# Altium footprint library ControlCircuit_PCB_Library_V1_0.PcbLib: 207 footprints (part 8 of 13)
Each footprint in its own frame and in the unit in brackets; x right, y up, seen from the top. Pads: shape width x height; smd on the part's side, far side on the other; paste and mask are expansions set on the pad; w line width, h text height; cw(c..) or ccw(c..) is an arc to the next point about the centre after c.
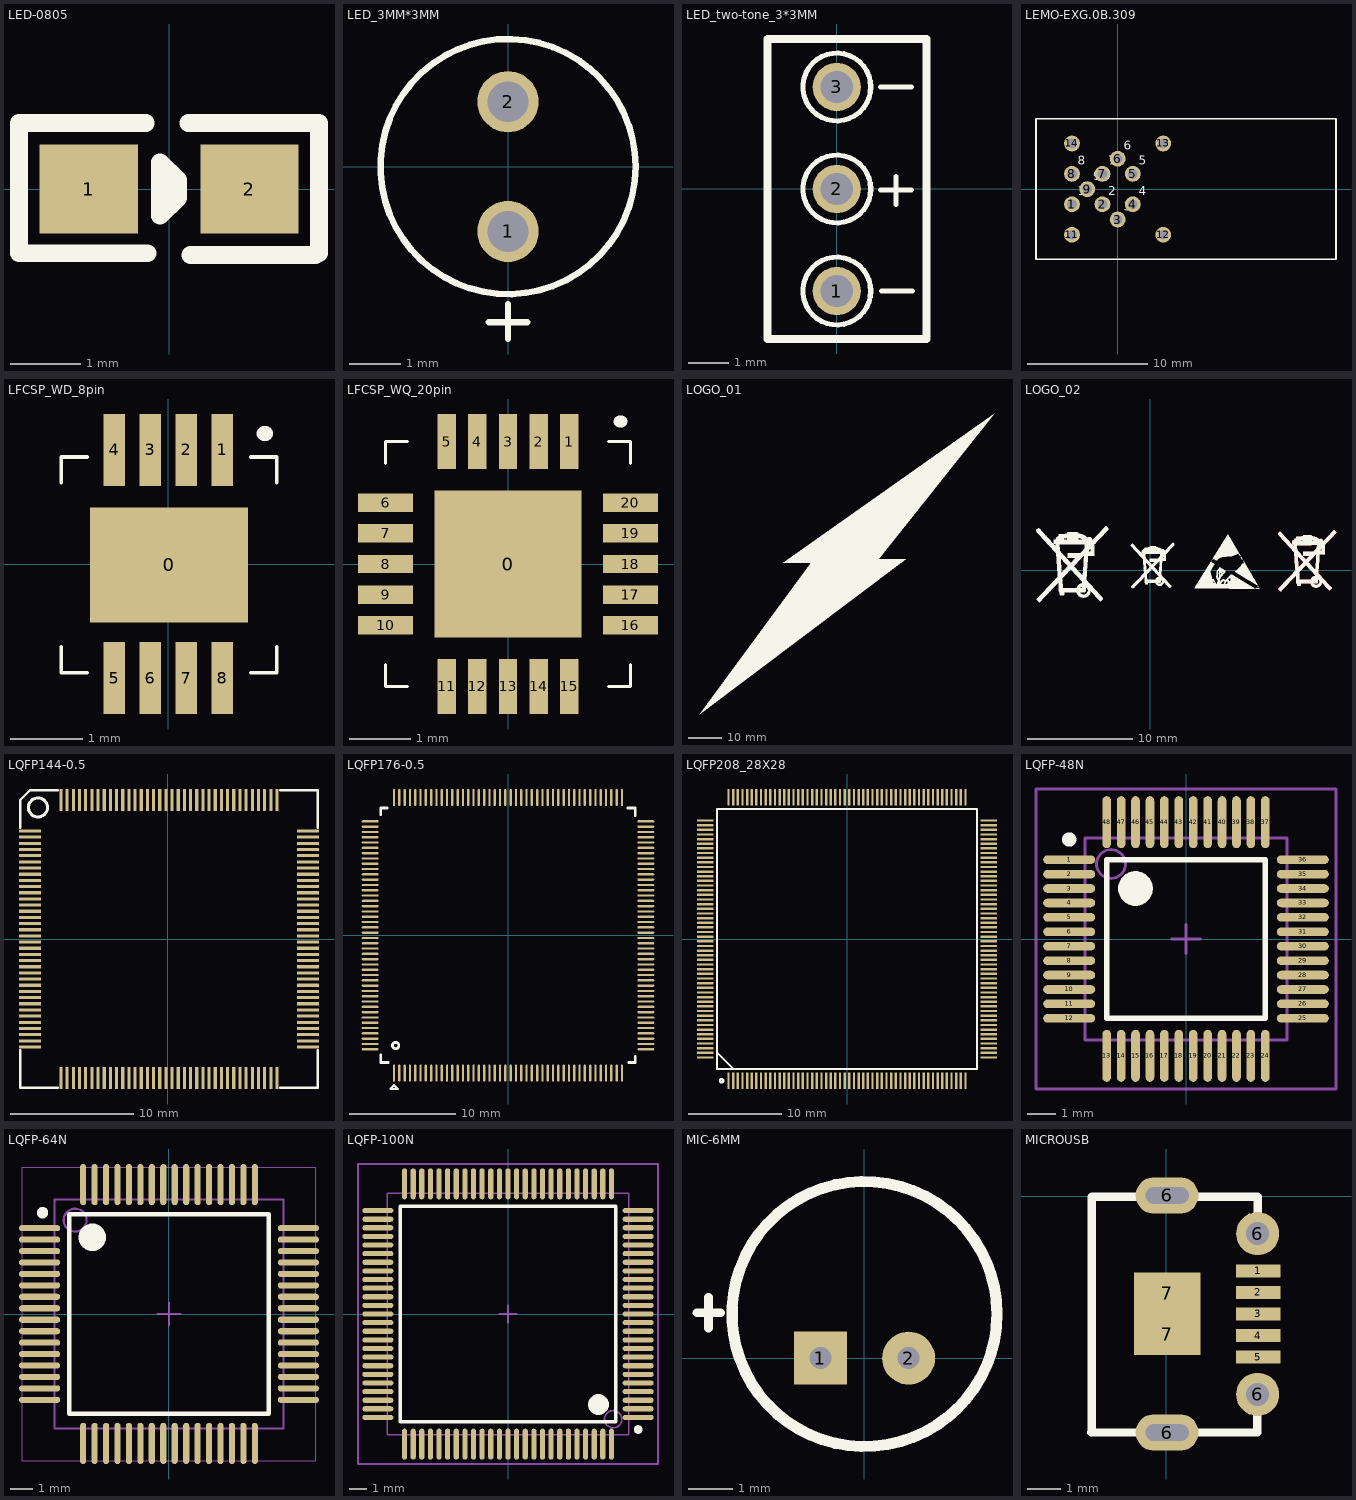
[diagram p7: the footprints below, top view; thin cyan lines are the x and y axes]

## LED-0805 [mil]
pads (2):
  rect 55x50 smd: 1(-45,0) 2(45,0)
Top Overlay:
  lines w10: -84,-36 -84,37 -13,37 ; -82,-36 -12,-36 ; -0.13,-10.13 -0.13,9.87 ; 11,37 84,37 84,-36 ; 12,-37 82,-37 ; -5,-15 5,-5 5,5 -5,15 -5,-15

## LED_3MM*3MM [mm]
pads (2):
  round 1.2 hole 0.8: 1(0,-1.27) 2(0,1.27)
Top Overlay:
  circle w0.127: c0,0 r2.5
  lines w0.127: -0.381,-3.048 0.381,-3.048 ; 0,-3.378 0,-2.692

## LED_two-tone_3*3MM [mm]
pads (3):
  round 1.2 hole 0.8: 1(0,-2.54) 2(0,0) 3(0,2.54)
Top Overlay:
  circle w0.127: c0,-2.54 r0.844
  circle w0.127: c0,0 r0.844
  circle w0.127: c0,2.54 r0.844
  lines w0.127: 1.092,-0.025 1.854,-0.025 ; 1.092,2.54 1.854,2.54 ; 1.118,-2.54 1.88,-2.54 ; 1.473,-0.381 1.473,0.305
  lines w0.203: -1.727,-3.734 2.235,-3.734 2.235,3.734 -1.727,3.734 -1.727,1.867 -1.727,-1.867 -1.727,-3.734

## LEMO-EXG.0B.309 [mil]
pads (13):
  round 52 hole 32: 1(-150,-50) 2(-50,-50) 3(0,-100) 4(50,-50) 5(50,50) 6(0,100) 7(-50,50) 8(-150,50) 9(-100,0) 11(-150,-150) 12(150,-150) 13(150,150) 14(-150,150)
Top Overlay:
  lines w5: -268.11,-230.31 717,-230.31 717,231 -268.11,231 -268.11,-230.31
  text "1" at -130.31,-30.32 h49.6
  text "2" at -30.32,-30.32 h49.6
  text "3" at 20,-80.31 h49.6
  text "4" at 70,-30.32 h49.6
  text "5" at 70,70 h49.6
  text "6" at 20,120 h49.6
  text "7" at -30.32,70 h49.6
  text "8" at -130.31,70 h49.6
  text "9" at -80.31,20 h49.6

## LFCSP_WD_8pin [mm]
pads (9):
  rect 2.2x1.6 smd: 0(0.012,-0.011)
  rect 0.3x1 smd: 1(0.75,1.587) 2(0.25,1.587) 3(-0.25,1.587) 4(-0.75,1.587) 5(-0.75,-1.587) 6(-0.25,-1.587) 7(0.25,-1.587) 8(0.75,-1.587)
Top Overlay:
  lines w0.051: -1.488,-1.153 -1.488,-1.511 -1.13,-1.511 ; -1.488,1.13 -1.488,1.489 -1.13,1.489 ; 1.154,-1.511 1.512,-1.511 1.512,-1.153 ; 1.154,1.489 1.512,1.489 1.512,1.13
  lines w0.203: 1.334,1.816 1.36,1.816

## LFCSP_WQ_20pin [mm]
pads (21):
  rect 2.4x2.4 smd: 0(0,0)
  rect 0.3x0.9 smd: 1(1,2) 2(0.5,2) 3(0,2) 4(-0.5,2) 5(-1,2) 11(-1,-2) 12(-0.5,-2) 13(0,-2) 14(0.5,-2) 15(1,-2)
  rect 0.9x0.3 smd: 6(-2,1) 7(-2,0.5) 8(-2,0) 9(-2,-0.5) 10(-2,-1) 16(2,-1) 17(2,-0.5) 18(2,0) 19(2,0.5) 20(2,1)
Top Overlay:
  lines w0.051: -2,-1.642 -2,-2 -1.642,-2 ; -2,1.642 -2,2 -1.642,2 ; 1.642,-2 2,-2 2,-1.642 ; 1.642,2 2,2 2,1.642
  lines w0.203: 1.822,2.327 1.848,2.327

## LOGO_01 [mm]
Top Overlay:
  region: -270.688,25.679 -236.906,71.653 -209.474,71.653
  region: -183.312,114.808 -218.465,70.688 -245.897,70.688

## LOGO_02 [mm]
Top Layer:
  drawing of 1717 lines, arcs and shapes, not listed
Top Overlay:
  drawing of 8116 lines, arcs and shapes, not listed

## LQFP144-0.5 [mm]
pads (144):
  rect 1.8x0.254 smd: 1(-11.134,8.764) 2(-11.134,8.264) 3(-11.134,7.764) 4(-11.134,7.264) 5(-11.134,6.764) 6(-11.134,6.264) 7(-11.134,5.764) 8(-11.134,5.264) 9(-11.134,4.764) 10(-11.134,4.264) 11(-11.134,3.764) 12(-11.134,3.264) 13(-11.134,2.764) 14(-11.134,2.264) 15(-11.134,1.764) 16(-11.134,1.264) 17(-11.134,0.764) 18(-11.134,0.264) 19(-11.134,-0.236) 20(-11.134,-0.736) 21(-11.134,-1.236) 22(-11.134,-1.736) 23(-11.134,-2.236) 24(-11.134,-2.736) 25(-11.134,-3.236) 26(-11.134,-3.736) 27(-11.134,-4.236) 28(-11.134,-4.736) 29(-11.134,-5.236) 30(-11.134,-5.736) 31(-11.134,-6.236) 32(-11.134,-6.736) 33(-11.134,-7.236) 34(-11.134,-7.736) 35(-11.134,-8.236) 36(-11.134,-8.736) 73(11.366,-8.736) 74(11.366,-8.236) 75(11.366,-7.736) 76(11.366,-7.236) 77(11.366,-6.736) 78(11.366,-6.236) 79(11.366,-5.736) 80(11.366,-5.236) 81(11.366,-4.736) 82(11.366,-4.236) 83(11.366,-3.736) 84(11.366,-3.236) 85(11.366,-2.736) 86(11.366,-2.236) 87(11.366,-1.736) 88(11.366,-1.236) 89(11.366,-0.736) 90(11.366,-0.236) 91(11.366,0.264) 92(11.366,0.764) 93(11.366,1.264) 94(11.366,1.764) 95(11.366,2.264) 96(11.366,2.764) 97(11.366,3.264) 98(11.366,3.764) 99(11.366,4.264) 100(11.366,4.764) 101(11.366,5.264) 102(11.366,5.764) 103(11.366,6.264) 104(11.366,6.764) 105(11.366,7.264) 106(11.366,7.764) 107(11.366,8.264) 108(11.366,8.764)
  rect 0.254x1.8 smd: 37(-8.634,-11.236) 38(-8.134,-11.236) 39(-7.634,-11.236) 40(-7.134,-11.236) 41(-6.634,-11.236) 42(-6.134,-11.236) 43(-5.634,-11.236) 44(-5.134,-11.236) 45(-4.634,-11.236) 46(-4.134,-11.236) 47(-3.634,-11.236) 48(-3.134,-11.236) 49(-2.634,-11.236) 50(-2.134,-11.236) 51(-1.634,-11.236) 52(-1.134,-11.236) 53(-0.634,-11.236) 54(-0.134,-11.236) 55(0.366,-11.236) 56(0.866,-11.236) 57(1.366,-11.236) 58(1.866,-11.236) 59(2.366,-11.236) 60(2.866,-11.236) 61(3.366,-11.236) 62(3.866,-11.236) 63(4.366,-11.236) 64(4.866,-11.236) 65(5.366,-11.236) 66(5.866,-11.236) 67(6.366,-11.236) 68(6.866,-11.236) 69(7.366,-11.236) 70(7.866,-11.236) 71(8.366,-11.236) 72(8.866,-11.236) 109(8.866,11.264) 110(8.366,11.264) 111(7.866,11.264) 112(7.366,11.264) 113(6.866,11.264) 114(6.366,11.264) 115(5.866,11.264) 116(5.366,11.264) 117(4.866,11.264) 118(4.366,11.264) 119(3.866,11.264) 120(3.366,11.264) 121(2.866,11.264) 122(2.366,11.264) 123(1.866,11.264) 124(1.366,11.264) 125(0.866,11.264) 126(0.366,11.264) 127(-0.134,11.264) 128(-0.634,11.264) 129(-1.134,11.264) 130(-1.634,11.264) 131(-2.134,11.264) 132(-2.634,11.264) 133(-3.134,11.264) 134(-3.634,11.264) 135(-4.134,11.264) 136(-4.634,11.264) 137(-5.134,11.264) 138(-5.634,11.264) 139(-6.134,11.264) 140(-6.634,11.264) 141(-7.134,11.264) 142(-7.634,11.264) 143(-8.134,11.264) 144(-8.634,11.264)
Top Overlay:
  circle w0.254: c-10.501,10.668 r0.773
  lines w0.2: -11.934,-8.986 -11.934,-12.036 -8.884,-12.036 ; -11.934,9.014 -11.934,11.264 -11.134,12.064 -8.884,12.064 ; 9.116,-12.036 12.166,-12.036 12.166,-8.986 ; 9.116,12.064 12.166,12.064 12.166,9.014

## LQFP176-0.5 [mm]
pads (176):
  oval 0.22x1.6 smd: 1(-10.75,-13) 2(-10.25,-13) 3(-9.75,-13) 4(-9.25,-13) 5(-8.75,-13) 6(-8.25,-13) 7(-7.75,-13) 8(-7.25,-13) 9(-6.75,-13) 10(-6.25,-13) 11(-5.75,-13) 12(-5.25,-13) 13(-4.75,-13) 14(-4.25,-13) 15(-3.75,-13) 16(-3.25,-13) 17(-2.75,-13) 18(-2.25,-13) 19(-1.75,-13) 20(-1.25,-13) 21(-0.75,-13) 22(-0.25,-13) 23(0.25,-13) 24(0.75,-13) 25(1.25,-13) 26(1.75,-13) 27(2.25,-13) 28(2.75,-13) 29(3.25,-13) 30(3.75,-13) 31(4.25,-13) 32(4.75,-13) 33(5.25,-13) 34(5.75,-13) 35(6.25,-13) 36(6.75,-13) 37(7.25,-13) 38(7.75,-13) 39(8.25,-13) 40(8.75,-13) 41(9.25,-13) 42(9.75,-13) 43(10.25,-13) 44(10.75,-13) 89(10.75,13) 90(10.25,13) 91(9.75,13) 92(9.25,13) 93(8.75,13) 94(8.25,13) 95(7.75,13) 96(7.25,13) 97(6.75,13) 98(6.25,13) 99(5.75,13) 100(5.25,13) 101(4.75,13) 102(4.25,13) 103(3.75,13) 104(3.25,13) 105(2.75,13) 106(2.25,13) 107(1.75,13) 108(1.25,13) 109(0.75,13) 110(0.25,13) 111(-0.25,13) 112(-0.75,13) 113(-1.25,13) 114(-1.75,13) 115(-2.25,13) 116(-2.75,13) 117(-3.25,13) 118(-3.75,13) 119(-4.25,13) 120(-4.75,13) 121(-5.25,13) 122(-5.75,13) 123(-6.25,13) 124(-6.75,13) 125(-7.25,13) 126(-7.75,13) 127(-8.25,13) 128(-8.75,13) 129(-9.25,13) 130(-9.75,13) 131(-10.25,13) 132(-10.75,13)
  oval 1.6x0.22 smd: 45(13,-10.75) 46(13,-10.25) 47(13,-9.75) 48(13,-9.25) 49(13,-8.75) 50(13,-8.25) 51(13,-7.75) 52(13,-7.25) 53(13,-6.75) 54(13,-6.25) 55(13,-5.75) 56(13,-5.25) 57(13,-4.75) 58(13,-4.25) 59(13,-3.75) 60(13,-3.25) 61(13,-2.75) 62(13,-2.25) 63(13,-1.75) 64(13,-1.25) 65(13,-0.75) 66(13,-0.25) 67(13,0.25) 68(13,0.75) 69(13,1.25) 70(13,1.75) 71(13,2.25) 72(13,2.75) 73(13,3.25) 74(13,3.75) 75(13,4.25) 76(13,4.75) 77(13,5.25) 78(13,5.75) 79(13,6.25) 80(13,6.75) 81(13,7.25) 82(13,7.75) 83(13,8.25) 84(13,8.75) 85(13,9.25) 86(13,9.75) 87(13,10.25) 88(13,10.75) 133(-13,10.75) 134(-13,10.25) 135(-13,9.75) 136(-13,9.25) 137(-13,8.75) 138(-13,8.25) 139(-13,7.75) 140(-13,7.25) 141(-13,6.75) 142(-13,6.25) 143(-13,5.75) 144(-13,5.25) 145(-13,4.75) 146(-13,4.25) 147(-13,3.75) 148(-13,3.25) 149(-13,2.75) 150(-13,2.25) 151(-13,1.75) 152(-13,1.25) 153(-13,0.75) 154(-13,0.25) 155(-13,-0.25) 156(-13,-0.75) 157(-13,-1.25) 158(-13,-1.75) 159(-13,-2.25) 160(-13,-2.75) 161(-13,-3.25) 162(-13,-3.75) 163(-13,-4.25) 164(-13,-4.75) 165(-13,-5.25) 166(-13,-5.75) 167(-13,-6.25) 168(-13,-6.75) 169(-13,-7.25) 170(-13,-7.75) 171(-13,-8.25) 172(-13,-8.75) 173(-13,-9.25) 174(-13,-9.75) 175(-13,-10.25) 176(-13,-10.75)
Top Overlay:
  circle w0.254: c-10.6,-10.4 r0.3
  lines w0.2: -11.1,-14.5 -10.75,-14.15 -10.4,-14.5 -11.1,-14.5
  lines w0.254: -12,-11.3 -12,-12 -11.3,-12 ; -12,11.4 -12,12 -11.4,12 ; 11.3,12 12,12 12,11.3 ; 11.4,-12 12,-12 12,-11.4

## LQFP208_28X28 [mil]
height 62.99
pads (208):
  rect 10x70 smd: 1(-501.97,-600.39) 2(-482.28,-600.39) 3(-462.6,-600.39) 4(-442.91,-600.39) 5(-423.23,-600.39) 6(-403.54,-600.39) 7(-383.86,-600.39) 8(-364.17,-600.39) 9(-344.49,-600.39) 10(-324.8,-600.39) 11(-305.12,-600.39) 12(-285.43,-600.39) 13(-265.75,-600.39) 14(-246.06,-600.39) 15(-226.38,-600.39) 16(-206.69,-600.39) 17(-187.01,-600.39) 18(-167.32,-600.39) 19(-147.64,-600.39) 20(-127.95,-600.39) 21(-108.27,-600.39) 22(-88.58,-600.39) 23(-68.9,-600.39) 24(-49.21,-600.39) 25(-29.53,-600.39) 26(-9.84,-600.39) 27(9.84,-600.39) 28(29.53,-600.39) 29(49.21,-600.39) 30(68.9,-600.39) 31(88.58,-600.39) 32(108.27,-600.39) 33(127.95,-600.39) 34(147.64,-600.39) 35(167.32,-600.39) 36(187.01,-600.39) 37(206.69,-600.39) 38(226.38,-600.39) 39(246.06,-600.39) 40(265.75,-600.39) 41(285.43,-600.39) 42(305.12,-600.39) 43(324.8,-600.39) 44(344.49,-600.39) 45(364.17,-600.39) 46(383.86,-600.39) 47(403.54,-600.39) 48(423.23,-600.39) 49(442.91,-600.39) 50(462.6,-600.39) 51(482.28,-600.39) 52(501.97,-600.39) 105(501.97,600.39) 106(482.28,600.39) 107(462.6,600.39) 108(442.91,600.39) 109(423.23,600.39) 110(403.54,600.39) 111(383.86,600.39) 112(364.17,600.39) 113(344.49,600.39) 114(324.8,600.39) 115(305.12,600.39) 116(285.43,600.39) 117(265.75,600.39) 118(246.06,600.39) 119(226.38,600.39) 120(206.69,600.39) 121(187.01,600.39) 122(167.32,600.39) 123(147.64,600.39) 124(127.95,600.39) 125(108.27,600.39) 126(88.58,600.39) 127(68.9,600.39) 128(49.21,600.39) 129(29.53,600.39) 130(9.84,600.39) 131(-9.84,600.39) 132(-29.53,600.39) 133(-49.21,600.39) 134(-68.9,600.39) 135(-88.58,600.39) 136(-108.27,600.39) 137(-127.95,600.39) 138(-147.64,600.39) 139(-167.32,600.39) 140(-187.01,600.39) 141(-206.69,600.39) 142(-226.38,600.39) 143(-246.06,600.39) 144(-265.75,600.39) 145(-285.43,600.39) 146(-305.12,600.39) 147(-324.8,600.39) 148(-344.49,600.39) 149(-364.17,600.39) 150(-383.86,600.39) 151(-403.54,600.39) 152(-423.23,600.39) 153(-442.91,600.39) 154(-462.6,600.39) 155(-482.28,600.39) 156(-501.97,600.39)
  rect 70x10 smd: 53(600.39,-501.97) 54(600.39,-482.28) 55(600.39,-462.6) 56(600.39,-442.91) 57(600.39,-423.23) 58(600.39,-403.54) 59(600.39,-383.86) 60(600.39,-364.17) 61(600.39,-344.49) 62(600.39,-324.8) 63(600.39,-305.12) 64(600.39,-285.43) 65(600.39,-265.75) 66(600.39,-246.06) 67(600.39,-226.38) 68(600.39,-206.69) 69(600.39,-187.01) 70(600.39,-167.32) 71(600.39,-147.64) 72(600.39,-127.95) 73(600.39,-108.27) 74(600.39,-88.58) 75(600.39,-68.9) 76(600.39,-49.21) 77(600.39,-29.53) 78(600.39,-9.84) 79(600.39,9.84) 80(600.39,29.53) 81(600.39,49.21) 82(600.39,68.9) 83(600.39,88.58) 84(600.39,108.27) 85(600.39,127.95) 86(600.39,147.64) 87(600.39,167.32) 88(600.39,187.01) 89(600.39,206.69) 90(600.39,226.38) 91(600.39,246.06) 92(600.39,265.75) 93(600.39,285.43) 94(600.39,305.12) 95(600.39,324.8) 96(600.39,344.49) 97(600.39,364.17) 98(600.39,383.86) 99(600.39,403.54) 100(600.39,423.23) 101(600.39,442.91) 102(600.39,462.6) 103(600.39,482.28) 104(600.39,501.97) 157(-600.39,501.97) 158(-600.39,482.28) 159(-600.39,462.6) 160(-600.39,442.91) 161(-600.39,423.23) 162(-600.39,403.54) 163(-600.39,383.86) 164(-600.39,364.17) 165(-600.39,344.49) 166(-600.39,324.8) 167(-600.39,305.12) 168(-600.39,285.43) 169(-600.39,265.75) 170(-600.39,246.06) 171(-600.39,226.38) 172(-600.39,206.69) 173(-600.39,187.01) 174(-600.39,167.32) 175(-600.39,147.64) 176(-600.39,127.95) 177(-600.39,108.27) 178(-600.39,88.58) 179(-600.39,68.9) 180(-600.39,49.21) 181(-600.39,29.53) 182(-600.39,9.84) 183(-600.39,-9.84) 184(-600.39,-29.53) 185(-600.39,-49.21) 186(-600.39,-68.9) 187(-600.39,-88.58) 188(-600.39,-108.27) 189(-600.39,-127.95) 190(-600.39,-147.64) 191(-600.39,-167.32) 192(-600.39,-187.01) 193(-600.39,-206.69) 194(-600.39,-226.38) 195(-600.39,-246.06) 196(-600.39,-265.75) 197(-600.39,-285.43) 198(-600.39,-305.12) 199(-600.39,-324.8) 200(-600.39,-344.49) 201(-600.39,-364.17) 202(-600.39,-383.86) 203(-600.39,-403.54) 204(-600.39,-423.23) 205(-600.39,-442.91) 206(-600.39,-462.6) 207(-600.39,-482.28) 208(-600.39,-501.97)
Top Overlay:
  circle w9.84: c-530.87,-600.46 r7.02
  lines w7.8: -551.08,-480.43 -480.49,-551.02
  lines w7.87: -551.08,-551.18 551.28,-551.18 551.28,551.18 -551.08,551.18 -551.08,-551.18

## LQFP-48N [mm]
pads (48):
  oval 1.8x0.3 smd: 1(-4.05,2.75) 2(-4.05,2.25) 3(-4.05,1.75) 4(-4.05,1.25) 5(-4.05,0.75) 6(-4.05,0.25) 7(-4.05,-0.25) 8(-4.05,-0.75) 9(-4.05,-1.25) 10(-4.05,-1.75) 11(-4.05,-2.25) 12(-4.05,-2.75) 25(4.05,-2.75) 26(4.05,-2.25) 27(4.05,-1.75) 28(4.05,-1.25) 29(4.05,-0.75) 30(4.05,-0.25) 31(4.05,0.25) 32(4.05,0.75) 33(4.05,1.25) 34(4.05,1.75) 35(4.05,2.25) 36(4.05,2.75)
  oval 0.3x1.8 smd: 13(-2.75,-4.05) 14(-2.25,-4.05) 15(-1.75,-4.05) 16(-1.25,-4.05) 17(-0.75,-4.05) 18(-0.25,-4.05) 19(0.25,-4.05) 20(0.75,-4.05) 21(1.25,-4.05) 22(1.75,-4.05) 23(2.25,-4.05) 24(2.75,-4.05) 37(2.75,4.05) 38(2.25,4.05) 39(1.75,4.05) 40(1.25,4.05) 41(0.75,4.05) 42(0.25,4.05) 43(-0.25,4.05) 44(-0.75,4.05) 45(-1.25,4.05) 46(-1.75,4.05) 47(-2.25,4.05) 48(-2.75,4.05)
Top Overlay:
  circle w0.6: c-1.75,1.75 r0.3
  circle w0.25: c-4.05,3.45 r0.125
  lines w0.2: -2.75,-2.75 2.75,-2.75 2.75,2.75 -2.75,2.75 -2.75,-2.75
Mechanical 13:
  circle w0.1: c-2.6,2.6 r0.5
  lines w0.1: -3.5,-3.5 3.5,-3.5 3.5,3.5 -3.5,3.5 -3.5,-3.5
Mechanical 15:
  lines w0.1: -0.5,0 0.5,0 ; 0,-0.5 0,0.5 ; -5.2,-5.2 5.2,-5.2 5.2,5.2 -5.2,5.2 -5.2,-5.2
3D body: height 1.6, standoff 0, extent -3.5,-3.5 3.5,3.5

## LQFP-64N [mm]
height 2
pads (64):
  oval 1.8x0.27 smd: 1(-5.652,3.75) 2(-5.652,3.25) 3(-5.652,2.75) 4(-5.652,2.25) 5(-5.652,1.75) 6(-5.652,1.25) 7(-5.652,0.75) 8(-5.652,0.25) 9(-5.652,-0.25) 10(-5.652,-0.75) 11(-5.652,-1.25) 12(-5.652,-1.75) 13(-5.652,-2.25) 14(-5.652,-2.75) 15(-5.652,-3.25) 16(-5.652,-3.75) 33(5.652,-3.75) 34(5.652,-3.25) 35(5.652,-2.75) 36(5.652,-2.25) 37(5.652,-1.75) 38(5.652,-1.25) 39(5.652,-0.75) 40(5.652,-0.25) 41(5.652,0.25) 42(5.652,0.75) 43(5.652,1.25) 44(5.652,1.75) 45(5.652,2.25) 46(5.652,2.75) 47(5.652,3.25) 48(5.652,3.75)
  oval 0.27x1.8 smd: 17(-3.75,-5.652) 18(-3.25,-5.652) 19(-2.75,-5.652) 20(-2.25,-5.652) 21(-1.75,-5.652) 22(-1.25,-5.652) 23(-0.75,-5.652) 24(-0.25,-5.652) 25(0.25,-5.652) 26(0.75,-5.652) 27(1.25,-5.652) 28(1.75,-5.652) 29(2.25,-5.652) 30(2.75,-5.652) 31(3.25,-5.652) 32(3.75,-5.652) 49(3.75,5.652) 50(3.25,5.652) 51(2.75,5.652) 52(2.25,5.652) 53(1.75,5.652) 54(1.25,5.652) 55(0.75,5.652) 56(0.25,5.652) 57(-0.25,5.652) 58(-0.75,5.652) 59(-1.25,5.652) 60(-1.75,5.652) 61(-2.25,5.652) 62(-2.75,5.652) 63(-3.25,5.652) 64(-3.75,5.652)
Top Overlay:
  circle w0.6: c-3.35,3.35 r0.3
  circle w0.25: c-5.525,4.425 r0.125
  lines w0.2: -4.35,-4.35 4.35,-4.35 4.35,4.35 -4.35,4.35 -4.35,-4.35
Mechanical 13:
  circle w0.1: c-4.1,4.1 r0.5
  lines w0.1: -5,-5 5,-5 5,5 -5,5 -5,-5
Mechanical 15:
  lines w0.05: -6.4,-6.4 6.4,-6.4 6.4,6.4 -6.4,6.4 -6.4,-6.4
  lines w0.1: -0.5,0 0.5,0 ; 0,-0.5 0,0.5
3D body: height 1.6, standoff 0, extent -5,-5 5,5

## LQFP-100N [mm]
pads (100):
  oval 1.8x0.3 smd: 1(7.55,-6) 2(7.55,-5.5) 3(7.55,-5) 4(7.55,-4.5) 5(7.55,-4) 6(7.55,-3.5) 7(7.55,-3) 8(7.55,-2.5) 9(7.55,-2) 10(7.55,-1.5) 11(7.55,-1) 12(7.55,-0.5) 13(7.55,0) 14(7.55,0.5) 15(7.55,1) 16(7.55,1.5) 17(7.55,2) 18(7.55,2.5) 19(7.55,3) 20(7.55,3.5) 21(7.55,4) 22(7.55,4.5) 23(7.55,5) 24(7.55,5.5) 25(7.55,6) 51(-7.55,6) 52(-7.55,5.5) 53(-7.55,5) 54(-7.55,4.5) 55(-7.55,4) 56(-7.55,3.5) 57(-7.55,3) 58(-7.55,2.5) 59(-7.55,2) 60(-7.55,1.5) 61(-7.55,1) 62(-7.55,0.5) 63(-7.55,0) 64(-7.55,-0.5) 65(-7.55,-1) 66(-7.55,-1.5) 67(-7.55,-2) 68(-7.55,-2.5) 69(-7.55,-3) 70(-7.55,-3.5) 71(-7.55,-4) 72(-7.55,-4.5) 73(-7.55,-5) 74(-7.55,-5.5) 75(-7.55,-6)
  oval 0.3x1.8 smd: 26(6,7.55) 27(5.5,7.55) 28(5,7.55) 29(4.5,7.55) 30(4,7.55) 31(3.5,7.55) 32(3,7.55) 33(2.5,7.55) 34(2,7.55) 35(1.5,7.55) 36(1,7.55) 37(0.5,7.55) 38(0,7.55) 39(-0.5,7.55) 40(-1,7.55) 41(-1.5,7.55) 42(-2,7.55) 43(-2.5,7.55) 44(-3,7.55) 45(-3.5,7.55) 46(-4,7.55) 47(-4.5,7.55) 48(-5,7.55) 49(-5.5,7.55) 50(-6,7.55) 76(-6,-7.55) 77(-5.5,-7.55) 78(-5,-7.55) 79(-4.5,-7.55) 80(-4,-7.55) 81(-3.5,-7.55) 82(-3,-7.55) 83(-2.5,-7.55) 84(-2,-7.55) 85(-1.5,-7.55) 86(-1,-7.55) 87(-0.5,-7.55) 88(0,-7.55) 89(0.5,-7.55) 90(1,-7.55) 91(1.5,-7.55) 92(2,-7.55) 93(2.5,-7.55) 94(3,-7.55) 95(3.5,-7.55) 96(4,-7.55) 97(4.5,-7.55) 98(5,-7.55) 99(5.5,-7.55) 100(6,-7.55)
Top Overlay:
  circle w0.6: c5.25,-5.25 r0.3
  circle w0.25: c7.55,-6.7 r0.125
  lines w0.2: -6.25,-6.25 6.25,-6.25 6.25,6.25 -6.25,6.25 -6.25,-6.25
Mechanical 13:
  circle w0.1: c6.1,-6.1 r0.5
  lines w0.1: -7,-7 7,-7 7,7 -7,7 -7,-7
Mechanical 15:
  lines w0.1: -0.5,0 0.5,0 ; 0,-0.5 0,0.5 ; -8.7,-8.7 8.7,-8.7 8.7,8.7 -8.7,8.7 -8.7,-8.7
3D body: height 1.6, standoff 0, extent -7,-7 7,7

## MIC-6MM [mm]
pads (2):
  rect 1.2x1.2 hole 0.5: 1(-1,0)
  round 1.2 hole 0.5: 2(1,0)
Top Overlay:
  circle w0.254: c0,1 r3
  lines w0.2: -3.792,1.03 -3.262,1.03 ; -3.532,0.68 -3.532,1.38

## MICROUSB [mm]
pads (11):
  rect 1.35x0.4 smd: 1(2.775,-2.25) 2(2.775,-2.9) 3(2.775,-3.55) 4(2.775,-4.2) 5(2.775,-4.85)
  oval 1.9x1.1 hole 0.5 slot 1.3 at 0 deg: 6(0.025,-7.125) 6(0.025,0.025)
  round 1.3 hole 0.7: 6(2.755,-5.975) 6(2.755,-1.125)
  rect 2x1.25 smd: 7(0.025,-4.166) 7(0.025,-2.925)
Top Overlay:
  lines w0.254: 2.755,-5.975 2.739,-5.991 2.739,-7.125 -2.261,-7.125 -2.245,-7.109 -2.245,-0.013 2.755,-0.013 2.755,-1.125